# Altium footprint library Projekt91.PcbLib: 27 footprints (part 2 of 2)
Each footprint in its own frame and in the unit in brackets; x right, y up, seen from the top. Pads: shape width x height; smd on the part's side, far side on the other; paste and mask are expansions set on the pad; w line width, h text height; cw(c..) or ccw(c..) is an arc to the next point about the centre after c.
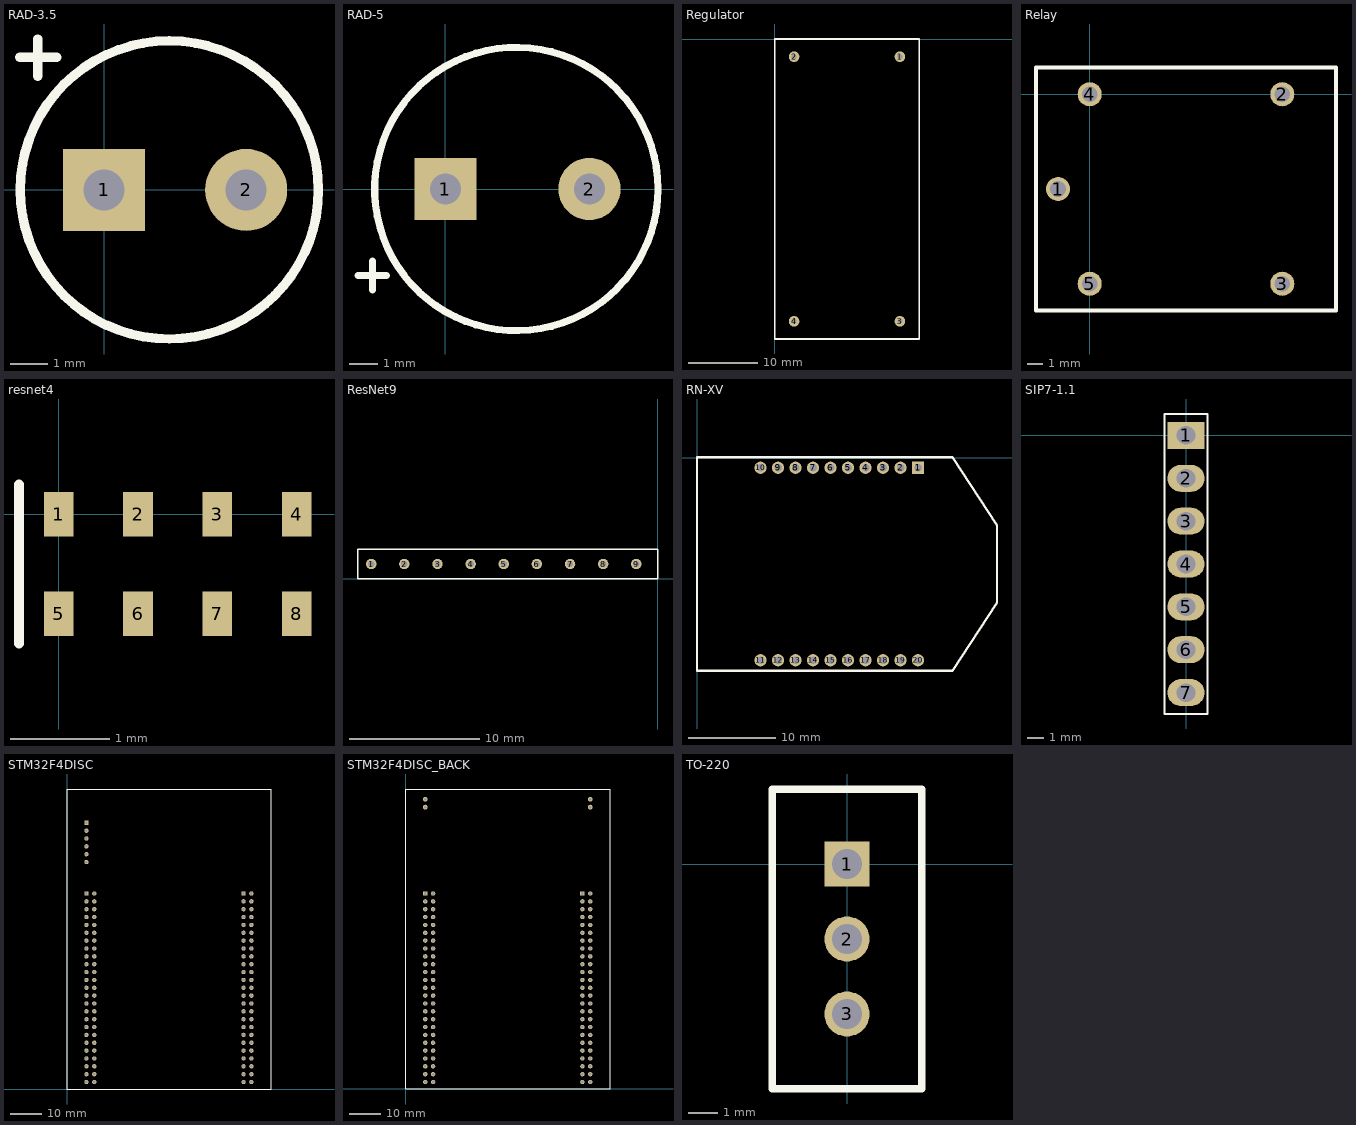
[diagram p1: the footprints below, top view; thin cyan lines are the x and y axes]

## RAD-3.5 [mm] "Radial 3.5mm; 8mm diameter"
pads (2):
  rect 2.2x2.2 hole 1.1: 1(0,0)
  round 2.2 hole 1.1: 2(3.81,0)
Top Overlay:
  circle w0.254: c1.75,0 r4
  lines w0.254: -2.27,3.556 -1.27,3.556 ; -1.778,3.048 -1.778,4.048

## RAD-5 [mm] "Radial 5mm; 10mm diameter"
pads (2):
  rect 2.2x2.2 hole 1.1: 1(0,0)
  round 2.2 hole 1.1: 2(5.08,0)
Top Overlay:
  circle w0.254: c2.5,0 r5
  lines w0.254: -3.088,-3.048 -2.088,-3.048 ; -2.58,-3.567 -2.58,-2.54

## Regulator [mil]
pads (4):
  round 60 hole 30: 1(710,-100) 2(110,-100) 3(710,-1600) 4(110,-1600)
Top Overlay:
  lines w10: 0,-1700 0,0 820,0 820,-1700 0,-1700

## Relay [mm]
pads (5):
  round 1.524 hole 1: 1(-2,-6) 2(12.2,0) 3(12.2,-12) 4(0,0) 5(0,-12)
Top Overlay:
  lines w0.254: -3.4,-13.7 15.6,-13.7 15.6,1.7 -3.4,1.7 -3.4,-13.7

## resnet4 [mm]
pads (8):
  rect 0.3x0.45 smd: 1(0,0) 2(0.8,0) 3(1.6,0) 4(2.4,0) 5(0,-1) 6(0.8,-1) 7(1.6,-1) 8(2.4,-1)
Top Overlay:
  lines w0.1: -0.4,-1.3 -0.4,0.3

## ResNet9 [mm]
pads (9):
  round 0.8 hole 0.483: 1(-21.984,1.143) 2(-19.444,1.143) 3(-16.904,1.143) 4(-14.364,1.143) 5(-11.824,1.143) 6(-9.284,1.143) 7(-6.744,1.143) 8(-4.204,1.143) 9(-1.664,1.143)
Top Overlay:
  lines w0.1: -23,0 0,0 0,1.143 0,2.286 -23,2.286 -23,1.143 -23,0

## RN-XV [mm] "RN-XV WiFly Pinout"
pads (20):
  rect 1.4x1.4 hole 0.85: 1(25.239,-1.165)
  round 1.4 hole 0.85: 2(23.239,-1.165) 3(21.239,-1.165) 4(19.239,-1.165) 5(17.239,-1.165) 6(15.239,-1.165) 7(13.239,-1.165) 8(11.239,-1.165) 9(9.239,-1.165) 10(7.239,-1.168) 11(7.239,-23.165) 12(9.239,-23.165) 13(11.239,-23.165) 14(13.239,-23.165) 15(15.239,-23.165) 16(17.239,-23.165) 17(19.239,-23.165) 18(21.239,-23.165) 19(23.239,-23.165) 20(25.239,-23.165)
Top Overlay:
  lines w0.254: -0.025,-24.359 29.185,-24.359 34.265,-16.612 34.265,-7.722 29.185,0.025 -0.025,0.025 -0.025,-24.359

## SIP7-1.1 [mm]
pads (7):
  rect 2.2x1.6 hole 1.1: 1(0,0)
  oval 2.2x1.6 hole 1.1: 2(0,-2.54) 3(0,-5.08) 4(0,-7.62) 5(0,-10.16) 6(0,-12.7) 7(0,-15.24)
Top Overlay:
  lines w0.1: -1.27,-16.51 -1.27,1.27 1.27,1.27 1.27,-16.51 -1.27,-16.51

## STM32F4DISC [mm] "STM32F4DISC_PINOUT"
pads (106):
  rect 1.4x1.4 hole 0.85: 1(6.25,63.21) 51(57.05,63.21) SWD1(6.25,86.07)
  round 1.4 hole 0.85: 2(8.79,63.21) 3(6.25,60.67) 4(8.79,60.67) 5(6.25,58.13) 6(8.79,58.13) 7(6.25,55.59) 8(8.79,55.59) 9(6.25,53.05) 10(8.79,53.05) 11(6.25,50.51) 12(8.79,50.51) 13(6.25,47.97) 14(8.79,47.97) 15(6.25,45.43) 16(8.79,45.43) 17(6.25,42.89) 18(8.79,42.89) 19(6.25,40.35) 20(8.79,40.35) 21(6.25,37.81) 22(8.79,37.81) 23(6.25,35.27) 24(8.79,35.27) 25(6.25,32.73) 26(8.79,32.73) 27(6.25,30.19) 28(8.79,30.19) 29(6.25,27.65) 30(8.79,27.65) 31(6.25,25.11) 32(8.79,25.11) 33(6.25,22.57) 34(8.79,22.57) 35(6.25,20.03) 36(8.79,20.03) 37(6.25,17.49) 38(8.79,17.49) 39(6.25,14.95) 40(8.79,14.95) 41(6.25,12.41) 42(8.79,12.41) 43(6.25,9.87) 44(8.79,9.87) 45(6.25,7.33) 46(8.79,7.33) 47(6.25,4.79) 48(8.79,4.79) 49(6.25,2.25) 50(8.79,2.25) 52(59.59,63.21) 53(57.05,60.67) 54(59.59,60.67) 55(57.05,58.13) 56(59.59,58.13) 57(57.05,55.59) 58(59.59,55.59) 59(57.05,53.05) 60(59.59,53.05) 61(57.05,50.51) 62(59.59,50.51) 63(57.05,47.97) 64(59.59,47.97) 65(57.05,45.43) 66(59.59,45.43) 67(57.05,42.89) 68(59.59,42.89) 69(57.05,40.35) 70(59.59,40.35) 71(57.05,37.81) 72(59.59,37.81) 73(57.05,35.27) 74(59.59,35.27) 75(57.05,32.73) 76(59.59,32.73) 77(57.05,30.19) 78(59.59,30.19) 79(57.05,27.65) 80(59.59,27.65) 81(57.05,25.11) 82(59.59,25.11) 83(57.05,22.57) 84(59.59,22.57) 85(57.05,20.03) 86(59.59,20.03) 87(57.05,17.49) 88(59.59,17.49) 89(57.05,14.95) 90(59.59,14.95) 91(57.05,12.41) 92(59.59,12.41) 93(57.05,9.87) 94(59.59,9.87) 95(57.05,7.33) 96(59.59,7.33) 97(57.05,4.79) 98(59.59,4.79) 99(57.05,2.25) 100(59.59,2.25) SWD2(6.25,83.53) SWD3(6.25,80.99) SWD4(6.25,78.45) SWD5(6.25,75.91) SWD6(6.25,73.37)
Top Overlay:
  lines w0.254: -0.1,0 6.25,0 ; 0,0 0,97 66,97 66,0 6,0

## STM32F4DISC_BACK [mm] "STM32F4Discovery without pins [101..106]"
pads (104):
  rect 1.4x1.4 hole 0.85: 1(6.243,63.203) 51(57.043,63.203)
  round 1.4 hole 0.85: 2(8.783,63.203) 3(6.243,60.663) 4(8.783,60.663) 5(6.243,58.123) 6(8.783,58.123) 7(6.243,55.583) 8(8.783,55.583) 9(6.243,53.043) 10(8.783,53.043) 11(6.243,50.503) 12(8.783,50.503) 13(6.243,47.963) 14(8.783,47.963) 15(6.243,45.423) 16(8.783,45.423) 17(6.243,42.883) 18(8.783,42.883) 19(6.243,40.343) 20(8.783,40.343) 21(6.243,37.803) 22(8.783,37.803) 23(6.243,35.263) 24(8.783,35.263) 25(6.243,32.723) 26(8.783,32.723) 27(6.243,30.183) 28(8.783,30.183) 29(6.243,27.643) 30(8.783,27.643) 31(6.243,25.103) 32(8.783,25.103) 33(6.243,22.563) 34(8.783,22.563) 35(6.243,20.023) 36(8.783,20.023) 37(6.243,17.483) 38(8.783,17.483) 39(6.243,14.943) 40(8.783,14.943) 41(6.243,12.403) 42(8.783,12.403) 43(6.243,9.863) 44(8.783,9.863) 45(6.243,7.323) 46(8.783,7.323) 47(6.243,4.783) 48(8.783,4.783) 49(6.243,2.243) 50(8.783,2.243) 52(59.583,63.203) 53(57.043,60.663) 54(59.583,60.663) 55(57.043,58.123) 56(59.583,58.123) 57(57.043,55.583) 58(59.583,55.583) 59(57.043,53.043) 60(59.583,53.043) 61(57.043,50.503) 62(59.583,50.503) 63(57.043,47.963) 64(59.583,47.963) 65(57.043,45.423) 66(59.583,45.423) 67(57.043,42.883) 68(59.583,42.883) 69(57.043,40.343) 70(59.583,40.343) 71(57.043,37.803) 72(59.583,37.803) 73(57.043,35.263) 74(59.583,35.263) 75(57.043,32.723) 76(59.583,32.723) 77(57.043,30.183) 78(59.583,30.183) 79(57.043,27.643) 80(59.583,27.643) 81(57.043,25.103) 82(59.583,25.103) 83(57.043,22.563) 84(59.583,22.563) 85(57.043,20.023) 86(59.583,20.023) 87(57.043,17.483) 88(59.583,17.483) 89(57.043,14.943) 90(59.583,14.943) 91(57.043,12.403) 92(59.583,12.403) 93(57.043,9.863) 94(59.583,9.863) 95(57.043,7.323) 96(59.583,7.323) 97(57.043,4.783) 98(59.583,4.783) 99(57.043,2.243) 100(59.583,2.243)
  round 1.524 hole 0.762: 101(6.243,91.143) 102(6.243,93.683) 103(59.583,91.143) 104(59.583,93.683)
Top Overlay:
  lines w0.254: 5.993,-0.007 65.993,-0.007 65.993,96.993 -0.007,96.993 -0.007,-0.007 6.243,-0.007

## TO-220 [mil]
pads (3):
  rect 60x60 hole 39.37: 1(0,0)
  round 60 hole 39.37: 2(0,-100) 3(0,-200)
Top Overlay:
  lines w10: -100,-300 100,-300 100,100 -100,100 -100,-300